# Altium footprint library DX_test_PcbLib1.PcbLib: 36 footprints (part 3 of 3)
Each footprint in its own frame and in the unit in brackets; x right, y up, seen from the top. Pads: shape width x height; smd on the part's side, far side on the other; paste and mask are expansions set on the pad; w line width, h text height; cw(c..) or ccw(c..) is an arc to the next point about the centre after c.
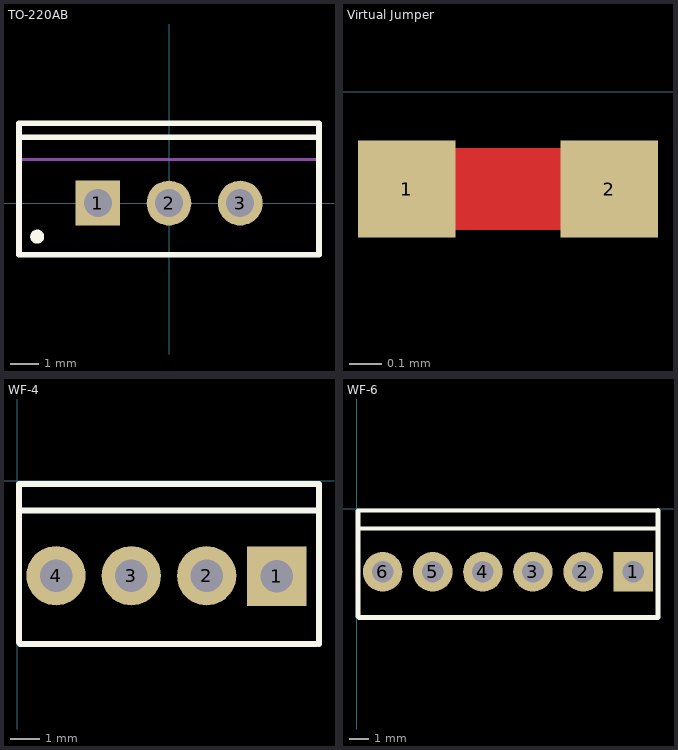
[diagram p2: the footprints below, top view; thin cyan lines are the x and y axes]

## TO-220AB [mm] "TO, Thru-Hole, Vertical, Heatsink Mounted; 3 In-Line Leads; Pitch 2.54 mm"
height 19.3
pads (3):
  rect 1.6x1.6 hole 1: 1(-2.54,0)
  round 1.6 hole 1: 2(0,0) 3(2.54,0)
Top Overlay:
  circle w0.25: c-4.7,-1.2 r0.125
  lines w0.2: -5.35,2.35 5.35,2.35 ; -5.35,-1.85 5.35,-1.85 5.35,2.85 -5.35,2.85 -5.35,-1.85
Mechanical 13:
  lines w0.1: -5.35,1.55 5.35,1.55 ; -5.35,-1.85 -5.35,2.85 5.35,2.85 5.35,-1.85 -5.35,-1.85
Mechanical 15:
  lines w0.1: -0.5,0 0.5,0 ; 0,-0.5 0,0.5
3D body: height 20.86, standoff -3, extent -5.27,-2.215 5.4,2.615

## Virtual Jumper [mm] "Virtual Jumper"
pads (2):
  rect 0.3x0.3 smd paste+0 mask+0: 1(0.25,-0.3) 2(0.875,-0.3)
Top Layer:
  lines w0.254: 0.25,-0.3 0.875,-0.3

## WF-4 [mm]
pads (4):
  rect 2x2 hole 1.1: 1(8.75,-3.23)
  round 2 hole 1.1: 2(6.39,-3.21) 3(3.85,-3.21) 4(1.31,-3.21)
Top Overlay:
  lines w0.203: 0.06,-5.47 0.06,-0.121 ; 0.1,-5.52 10.095,-5.52 ; 0.11,-0.11 10.18,-0.11 10.18,-5.518 ; 0.159,-1.01 10.18,-1.01
3D body: height 11.73, standoff -2.55, extent 0.055,-6.42 10.215,-0.52

## WF-6 [mm] "Connector WF-6"
pads (6):
  rect 2x2 hole 1.1: 1(14.01,-3.2)
  round 2 hole 1.1: 2(11.47,-3.2) 3(8.93,-3.2) 4(6.39,-3.2) 5(3.85,-3.2) 6(1.31,-3.2)
Top Overlay:
  lines w0.203: 0.11,-0.1 15.27,-0.1 ; 0.159,-1 15.27,-1
  lines w0.25: 0.06,-5.46 0.06,-0.111 ; 0.1,-5.51 15.27,-5.51 15.27,-0.1
3D body: height 11.56, standoff -3.24, extent 0.07,-6.498 15.31,-0.698